# Altium footprint library Resistors1.PcbLib: 3 footprints
Each footprint in its own frame and in the unit in brackets; x right, y up, seen from the top. Pads: shape width x height; smd on the part's side, far side on the other; paste and mask are expansions set on the pad; w line width, h text height; cw(c..) or ccw(c..) is an arc to the next point about the centre after c.
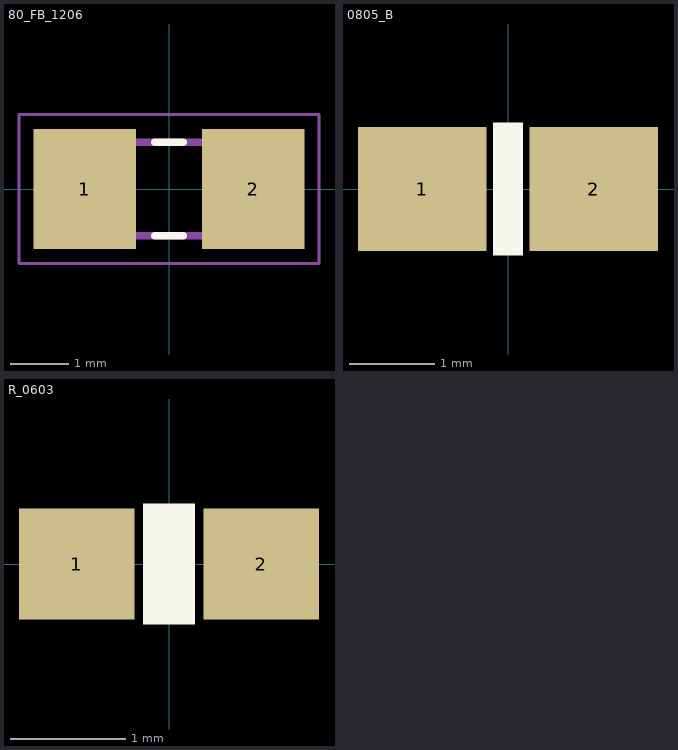
[diagram p0: the footprints below, top view; thin cyan lines are the x and y axes]

## 80_FB_1206 [mm]
pads (2):
  rect 1.76x2.06 smd: 1(-1.445,0) 2(1.445,0)
Top Overlay:
  lines w0.127: -0.245,-0.8 0.245,-0.8 ; -0.245,0.8 0.245,0.8
Mechanical 13:
  lines w0.127: -1.6,-0.8 -1.6,0.8 1.6,0.8 1.6,-0.8 -1.6,-0.8
Mechanical 15:
  lines w0.05: -2.575,-1.28 -2.575,1.28 2.575,1.28 2.575,-1.28 -2.575,-1.28

## 0805_B [mm]
pads (2):
  rect 1.5x1.45 smd mask+0.064: 1(-1,0) 2(1,0)
Top Overlay:
  rectangle: -0.175,-0.775 0.175,0.775
3D body "0805 capacitor.stp": height 1.25, standoff 0, extent -1,-0.625 1.01,0.625

## R_0603 [mm]
pads (2):
  rect 1x0.96 smd mask+0.064: 1(-0.8,0) 2(0.8,0)
Top Overlay:
  rectangle: -0.225,-0.525 0.225,0.525
3D body "RES0603.stp": height 0.45, standoff 0, extent -0.8,-0.4 0.8,0.4